# Altium schematic symbol library Connector1x8.Schlib: 1 symbol
Pins are listed as number, name and electrical type; pins without a type are passive.

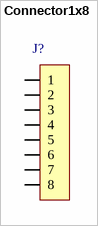
[diagram p0: symbol Connector1x8]

## Connector1x8
designator J?
pins: 1, 2, 3, 4, 5, 6, 7, 8